# EAGLE library part GPSMS1 (library GPSMS1)
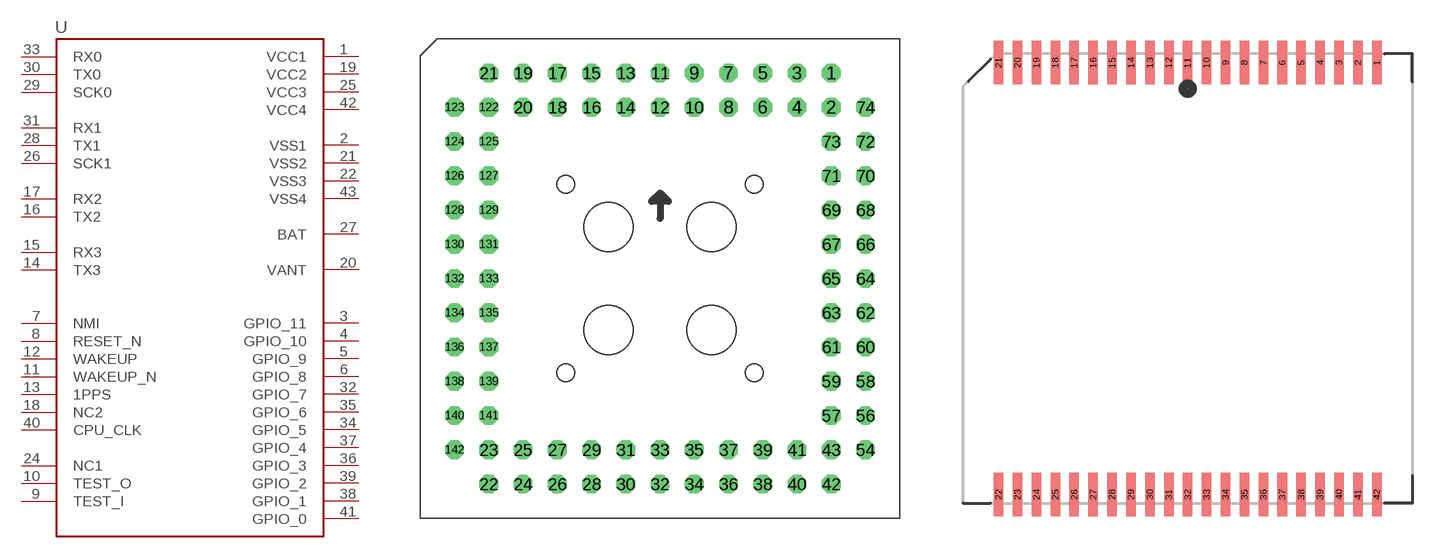
[diagram p0: symbol with the pads of PLCC84; footprints PLCC84, SMT]

Designator prefix U

## GPSMS1PLCC  [PLCC84]
1  VCC1  pwr
2  VSS1  pwr
3  GPIO_11
4  GPIO_10
5  GPIO_9
6  GPIO_8
7  NMI
8  RESET_N
9  TEST_I
10  TEST_O
11  WAKEUP_N
12  WAKEUP
13  1PPS
14  TX3  out
15  RX3  in
16  TX2  out
17  RX2  in
18  NC2  nc
19  VCC2  pwr
20  VANT  pwr
21  VSS2  pwr
22  VSS3  pwr
24  NC1  nc
25  VCC3  pwr
26  SCK1
27  BAT  pwr
28  TX1  out
29  SCK0
30  TX0  out
31  RX1  in
32  GPIO_7
33  RX0  in
34  GPIO_5
35  GPIO_6
36  GPIO_3
37  GPIO_4
38  GPIO_1
39  GPIO_2
40  CPU_CLK
41  GPIO_0
42  VCC4  pwr
43  VSS4  pwr

## GPSMS1SMT  [SMT]
1  VCC1  pwr
2  VSS1  pwr
3  GPIO_11
4  GPIO_10
5  GPIO_9
6  GPIO_8
7  NMI
8  RESET_N
9  TEST_I
10  TEST_O
11  WAKEUP_N
12  WAKEUP
13  1PPS
14  TX3  out
15  RX3  in
16  TX2  out
17  RX2  in
18  NC1  nc
19  VCC2  pwr
20  VANT  pwr
21  VSS2  pwr
22  VSS3  pwr
23  VCC3  pwr
24  NC2  nc
25  BAT  pwr
26  SCK1
27  SCK0
28  TX1  out
29  RX1  in
30  TX0  out
31  RX0  in
32  GPIO_7
33  GPIO_6
34  GPIO_5
35  GPIO_4
36  GPIO_3
37  GPIO_2
38  GPIO_1
39  GPIO_0
40  CPU_CLK
41  VSS4  pwr
42  VCC4  pwr

## Footprint PLCC84 (pad centres in mm)
drill 0.813 pad 1.397 octagon: 1 12.7,15.24; 2 12.7,12.7; 3 10.16,15.24; 4 10.16,12.7; 5 7.62,15.24; 6 7.62,12.7; 7 5.08,15.24; 8 5.08,12.7; 9 2.54,15.24; 10 2.54,12.7; 11 0,15.24; 12 0,12.7; 13 -2.54,15.24; 14 -2.54,12.7; 15 -5.08,15.24; 16 -5.08,12.7; 17 -7.62,15.24; 18 -7.62,12.7; 19 -10.16,15.24; 20 -10.16,12.7; 21 -12.7,15.24; 22 -12.7,-15.24; 23 -12.7,-12.7; 24 -10.16,-15.24; 25 -10.16,-12.7; 26 -7.62,-15.24; 27 -7.62,-12.7; 28 -5.08,-15.24; 29 -5.08,-12.7; 30 -2.54,-15.24; 31 -2.54,-12.7; 32 0,-15.24; 33 0,-12.7; 34 2.54,-15.24; 35 2.54,-12.7; 36 5.08,-15.24; 37 5.08,-12.7; 38 7.62,-15.24; 39 7.62,-12.7; 40 10.16,-15.24; 41 10.16,-12.7; 42 12.7,-15.24; 43 12.7,-12.7; 54 15.24,-12.7; 56 15.24,-10.16; 57 12.7,-10.16; 58 15.24,-7.62; 59 12.7,-7.62; 60 15.24,-5.08; 61 12.7,-5.08; 62 15.24,-2.54; 63 12.7,-2.54; 64 15.24,0; 65 12.7,0; 66 15.24,2.54; 67 12.7,2.54; 68 15.24,5.08; 69 12.7,5.08; 70 15.24,7.62; 71 12.7,7.62; 72 15.24,10.16; 73 12.7,10.16; 74 15.24,12.7; 122 -12.7,12.7; 123 -15.24,12.7; 124 -15.24,10.16; 125 -12.7,10.16; 126 -15.24,7.62; 127 -12.7,7.62; 128 -15.24,5.08; 129 -12.7,5.08; 130 -15.24,2.54; 131 -12.7,2.54; 132 -15.24,0; 133 -12.7,0; 134 -15.24,-2.54; 135 -12.7,-2.54; 136 -15.24,-5.08; 137 -12.7,-5.08; 138 -15.24,-7.62; 139 -12.7,-7.62; 140 -15.24,-10.16; 141 -12.7,-10.16; 142 -15.24,-12.7

## Footprint SMT (pad centres in mm)
MODIFIED PLCC84 SMT Package for U-Blox MS1E
smd 0.64 x 2.92: 1 12.7,14.5; 2 11.43,14.5; 3 10.16,14.5; 4 8.89,14.5; 5 7.62,14.5; 6 6.35,14.5; 7 5.08,14.5; 8 3.81,14.5; 9 2.54,14.5; 10 1.27,14.5; 11 0,14.5; 12 -1.27,14.5; 13 -2.54,14.5; 14 -3.81,14.5; 15 -5.08,14.5; 16 -6.35,14.5; 17 -7.62,14.5; 18 -8.89,14.5; 19 -10.16,14.5; 20 -11.43,14.5; 21 -12.7,14.5; 22 -12.7,-14.5; 23 -11.43,-14.5; 24 -10.16,-14.5; 25 -8.89,-14.5; 26 -7.62,-14.5; 27 -6.35,-14.5; 28 -5.08,-14.5; 29 -3.81,-14.5; 30 -2.54,-14.5; 31 -1.27,-14.5; 32 0,-14.5; 33 1.27,-14.5; 34 2.54,-14.5; 35 3.81,-14.5; 36 5.08,-14.5; 37 6.35,-14.5; 38 7.62,-14.5; 39 8.89,-14.5; 40 10.16,-14.5; 41 11.43,-14.5; 42 12.7,-14.5